# Altium integrated library IntegratedCircuit.IntLib: 91 symbols (part 2 of 2)
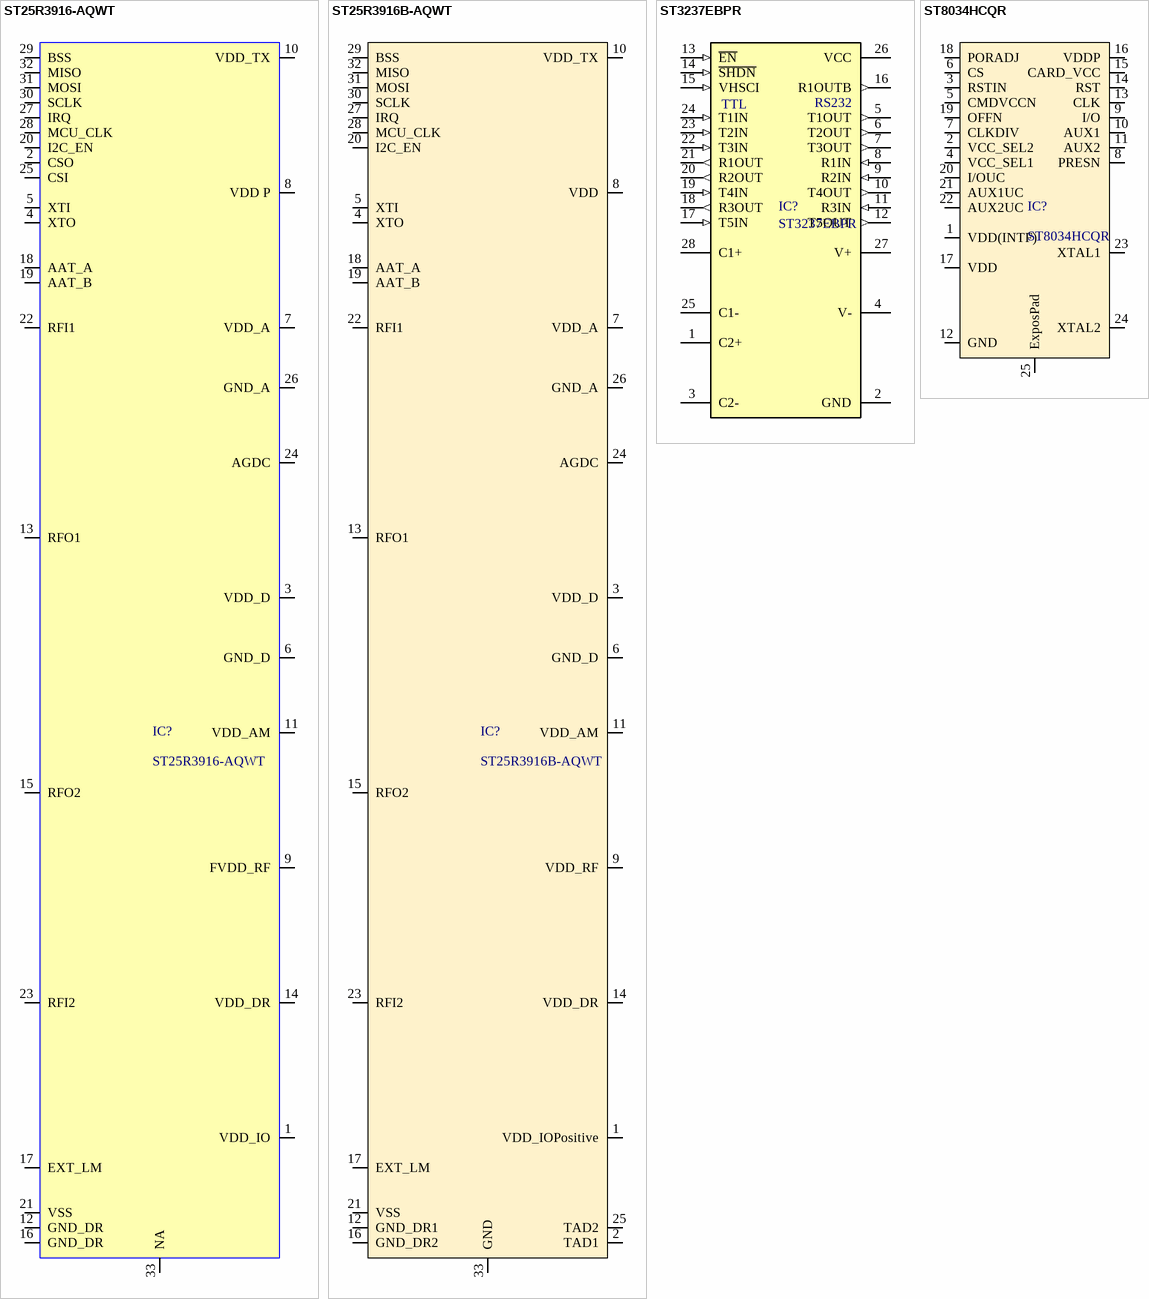
[diagram p10: symbols ST25R3916-AQWT to ST8034HCQR]

## ST25R3916-AQWT
designator IC?
High performance NFC universal device and EMVCo reader, VFQFPN 5X5X1 32L WETTABLE FLANKS, RoHS; Manufacturer: STMicroelectronics; Purpose Of Usage: BASIC; Supplier 1: Digi-Key; Manufacturer Part Number: ST25R3916-AQWT; RoHS: Yes; Category: INTEGRATED CIRCUITS; Supplier Part Number 1: 497-18366-1-ND; Sub-Category: NFC Driver; Mount: SMD; Case/Package: QFN; Lead Free: Lead Free; Stock ID: ??; Local Supplier: FUTURE; Price 10K: 2.88
footprint VFQFPN32 (PQFN, 32-Leads, Body 5.00x5.00mm, Pitch 0.50mm, Thermal Pad 3.50x3.50mm, IPC Medium Density)
pins: 1 VDD_IO "Positive supply for peripheral communication", 2 CSO "Capacitor sensor output / Test output 2", 3 VDD_D "Digital supply regulator output", 4 XTO "X’tal oscillator output", 5 XTI "X’tal oscillator input, in test mode used as digital input (clock)", 6 GND_D "Digital ground", 7 VDD_A "Analog supply regulator output", 8 VDD P "External positive supply", 9 FVDD_RF "Regulated driver supply for antenna drivers", 10 VDD_TX "External positive supply for the TX part", 11 VDD_AM "Regulated driver supply for AM modulation", 12 GND_DR "Antenna driver ground, including driver VSS", 13 RFO1 "Antenna driver output", 14 VDD_DR "Antenna driver positive supply input", 15 RFO2 "Antenna driver output", 16 GND_DR "Antenna driver ground, including driver VSS", 17 EXT_LM "External load modulation MOS gate driver", 18 AAT_A "AAT tune voltage for variable capacitor AAT_A", 19 AAT_B "AAT tune voltage for variable capacitor AAT_B", 20 I2C_EN "I2C interface enable (VDD_D level)", 21 VSS "Ground, die substrate potential", 22 RFI1 "Receiver input", 23 RFI2 "Receiver input", 24 AGDC "Analog reference voltage", 25 CSI "Capacitor sensor input / Test output 1", 26 GND_A "Analog ground", 27 IRQ "Interrupt request output", 28 MCU_CLK "Clock output for MCU", 29 BSS "SPI enable (active low)", 30 SCLK "SPI clock / I2C clock", 31 MOSI "SPI data input", 32 MISO "Serial peripheral interface data output / I2C data line", 33 NA "Thermal pad"

## ST25R3916B-AQWT
designator IC?
High Performance NFC Reader 13.553MHz to 13.567MHz 2mA 32-Pin VFQFPN T/R; Manufacturer: STMicroelectronics; Purpose Of Usage: BASIC; Supplier 1: Digi-Key; Manufacturer Part Number: ST25R3916B-AQWT; RoHS: No; Category: INTEGRATED CIRCUITS; Supplier Part Number 1: 497-ST25R3916B-AQWTTR-ND; Case/Package: QFN; Lead Free: Lead Free; Local Supplier: FUTURE; Mount: SMD; Price 10K: 2.88; Stock ID: ??; Sub-Category: NFC Driver
footprint VFQFPN32 (PQFN, 32-Leads, Body 5.00x5.00mm, Pitch 0.50mm, Thermal Pad 3.50x3.50mm, IPC Medium Density)
pins: 1 VDD_IOPositive "SPI enable (active low)", 2 TAD1 "Serial peripheral interface data output / I2C data line", 3 VDD_D "SPI data input", 4 XTO "X’tal oscillator output", 5 XTI "X’tal oscillator input, in test mode used as digital input (clock)", 6 GND_D "Clock output for MCU", 7 VDD_A "I2C interface enable (VDD_D level)", 8 VDD "Capacitor sensor output / Test output 2", 9 VDD_RF "Capacitor sensor input / Test output 1", 10 VDD_TX "X’tal oscillator input, in test mode used as digital input (clock)", 11 VDD_AM "X’tal oscillator output", 12 GND_DR1 "AAT tune voltage for variable capacitor AAT_A", 13 RFO1 "Antenna driver output", 14 VDD_DR "Receiver input", 15 RFO2 "Antenna driver output", 16 GND_DR2 "Antenna driver output", 17 EXT_LM "External load modulation MOS gate driver", 18 AAT_A "AAT tune voltage for variable capacitor AAT_A", 19 AAT_B "AAT tune voltage for variable capacitor AAT_B", 20 I2C_EN "I2C interface enable (VDD_D level)", 21 VSS "Ground, die substrate potential", 22 RFI1 "Receiver input", 23 RFI2 "Receiver input", 24 AGDC "Antenna driver positive supply input", 25 TAD2 "Regulated driver supply for antenna drivers", 26 GND_A "Regulated driver supply for AM modulation", 27 IRQ "Interrupt request output", 28 MCU_CLK "Clock output for MCU", 29 BSS "SPI enable (active low)", 30 SCLK "SPI clock / I2C clock", 31 MOSI "SPI data input", 32 MISO "Serial peripheral interface data output / I2C data line", 33 GND "External positive supply for the TX part"

## ST3237EBPR
designator IC?
Quint Transmitter Triple Receiver RS-232 28-Pin SSOP T/R; Manufacturer: STMicroelectronics; Purpose Of Usage: BASIC; Supplier 1: Digi-Key; Supplier Part Number 1: 497-7927-1-ND; Manufacturer Part Number: ST3237EBPR; Stock 1: 3927; RoHS: Yes; Mount: SMD; Case/Package: SSOP; Package Quantity: 1350; Lead Free: Lead Free; Category: INTEGRATED CIRCUITS; Sub-Category: RS232 to TTL; Stock ID: ??
footprint SSOP-28
pins: 1 C2+, 2 GND (power), 3 C2-, 4 V-, 5 T1OUT (out), 6 T2OUT (out), 7 T3OUT (out), 8 R1IN (in), 9 R2IN (in), 10 T4OUT (out), 11 R3IN (in), 12 T5OUT (out), 13 ~{EN} (in), 14 ~{SHDN} (in), 15 VHSCI (in), 16 R1OUTB (out), 17 T5IN (in), 18 R3OUT (out), 19 T4IN (in), 20 R2OUT (out), 21 R1OUT (out), 22 T3IN (in), 23 T2IN (in), 24 T1IN (in), 25 C1-, 26 VCC (power), 27 V+, 28 C1+
text: TTL; RS232

## ST8034HCQR
designator IC?
24-pin smartcard interfaces, -25°C to 85°C, HVQFN24 4x4x0-85, RoHS; Manufacturer: STMicroelectronics; Purpose Of Usage: BASIC; Supplier 1: Digi-Key; Manufacturer Part Number: ST8034HCQR; RoHS: Yes; Category: INTEGRATED CIRCUITS; Case/Package: QFN; Package Quantity: 6000; Supplier Part Number 1: ST8034HCQR-ND; Lead Free: Lead Free; Local Supplier: FUTURE; Mount: SMD; Price 10K: 0.35; Stock ID: ??; Sub-Category: SMART CARD DRIVER
footprint QFN24
pins: 1 VDD(INTF), 2 VCC_SEL2, 3 RSTIN, 4 VCC_SEL1, 5 CMDVCCN, 6 CS, 7 CLKDIV, 8 PRESN, 9 I/O, 10 AUX1, 11 AUX2, 12 GND, 13 CLK, 14 RST, 15 CARD_VCC, 16 VDDP, 17 VDD, 18 PORADJ, 19 OFFN, 20 I/OUC, 21 AUX1UC, 22 AUX2UC, 23 XTAL1, 24 XTAL2, 25 ExposPad

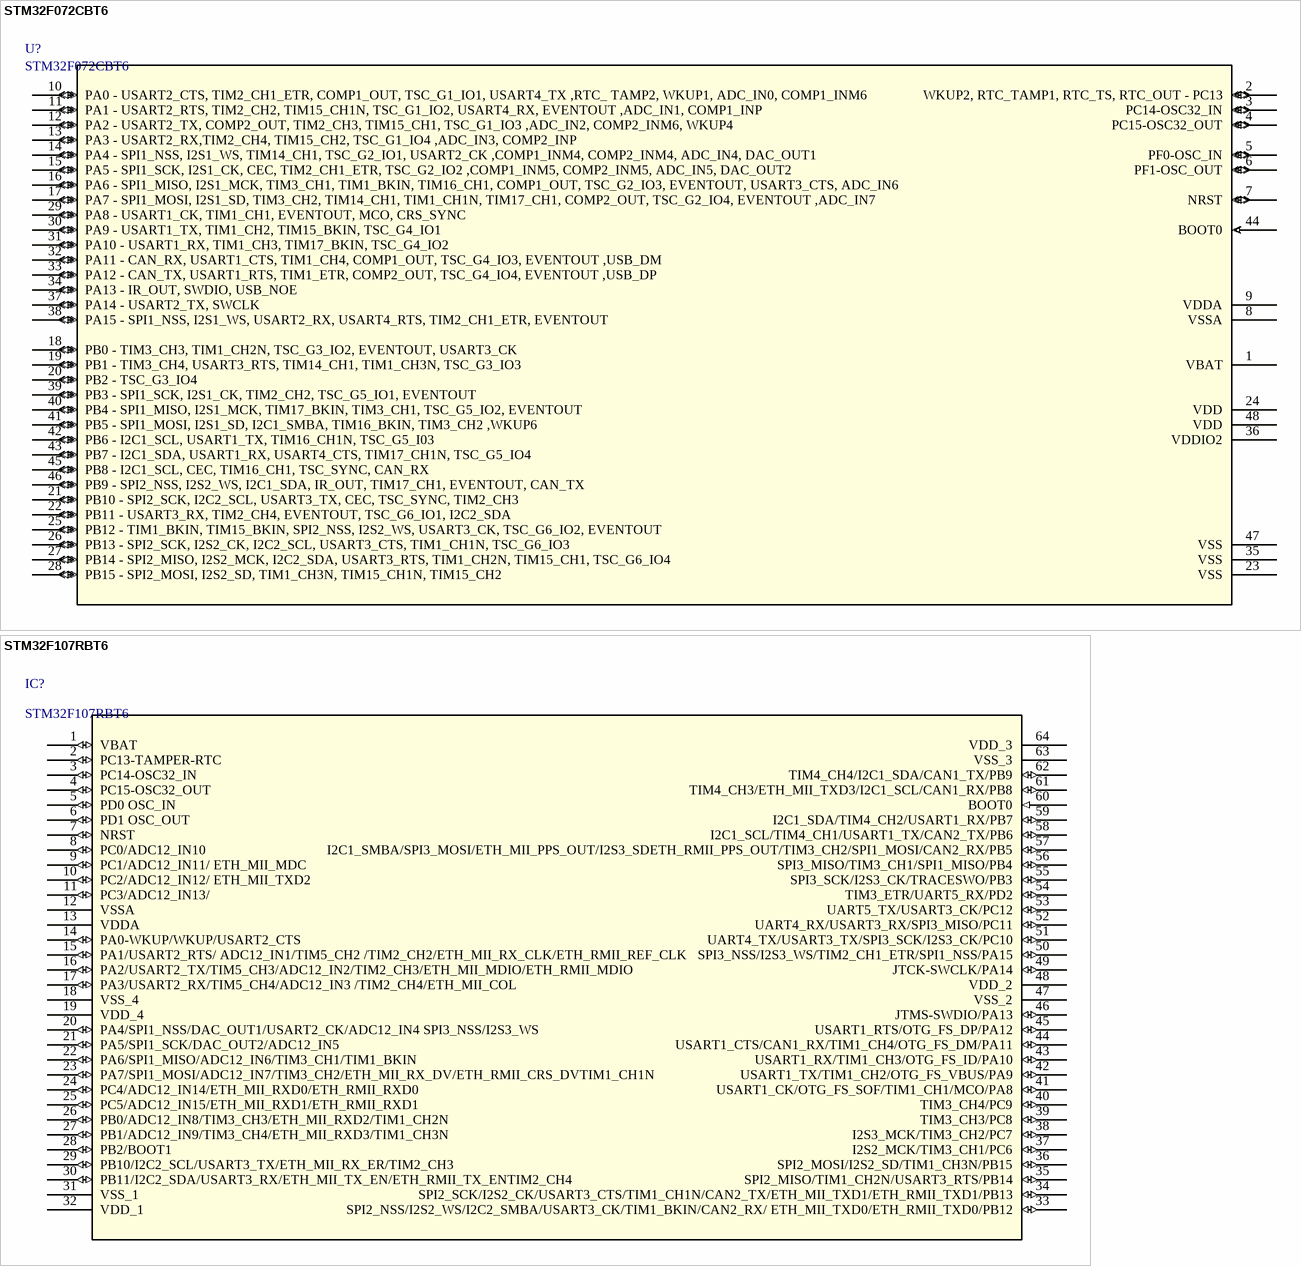
[diagram p6: symbols STM32F072CBT6 to STM32F107RBT6]

## STM32F072CBT6
designator U?
IC MCU 32BIT 128KB FLASH 48LQFP; Manufacturer: STMicroelectronics; Purpose Of Usage: BASIC; Supplier 1: Digi-Key; Manufacturer Part Number: STM32F072CBT6; Stock 1: 16666; RoHS: Yes; Mount: SMD; Case/Package: LQFP; Lead Free: Lead Free; Supplier Part Number 1: 497-14645-ND; Category: INTEGRATED CIRCUITS; Sub-Category: MCU; Stock ID: ??
footprint LQFP48-7x7mm_STM
pins: 1 VBAT (power), 2 WKUP2, RTC_TAMP1, RTC_TS, RTC_OUT - PC13 (io), 3 PC14-OSC32_IN (io), 4 PC15-OSC32_OUT (io), 5 PF0-OSC_IN (io), 6 PF1-OSC_OUT (io), 7 NRST (io), 8 VSSA (power), 9 VDDA (power), 10 PA0 - USART2_CTS, TIM2_CH1_ETR, COMP1_OUT, TSC_G1_IO1, USART4_TX ,RTC_ TAMP2, WKUP1, ADC_IN0, COMP1_INM6 (io), 11 PA1 - USART2_RTS, TIM2_CH2, TIM15_CH1N, TSC_G1_IO2, USART4_RX, EVENTOUT ,ADC_IN1, COMP1_INP (io), 12 PA2 - USART2_TX, COMP2_OUT, TIM2_CH3, TIM15_CH1, TSC_G1_IO3 ,ADC_IN2, COMP2_INM6, WKUP4 (io), 13 PA3 - USART2_RX,TIM2_CH4, TIM15_CH2, TSC_G1_IO4 ,ADC_IN3, COMP2_INP (io), 14 PA4 - SPI1_NSS, I2S1_WS, TIM14_CH1, TSC_G2_IO1, USART2_CK ,COMP1_INM4, COMP2_INM4, ADC_IN4, DAC_OUT1 (io), 15 PA5 - SPI1_SCK, I2S1_CK, CEC, TIM2_CH1_ETR, TSC_G2_IO2 ,COMP1_INM5, COMP2_INM5, ADC_IN5, DAC_OUT2 (io), 16 PA6 - SPI1_MISO, I2S1_MCK, TIM3_CH1, TIM1_BKIN, TIM16_CH1, COMP1_OUT, TSC_G2_IO3, EVENTOUT, USART3_CTS, ADC_IN6 (io), 17 PA7 - SPI1_MOSI, I2S1_SD, TIM3_CH2, TIM14_CH1, TIM1_CH1N, TIM17_CH1, COMP2_OUT, TSC_G2_IO4, EVENTOUT ,ADC_IN7 (io), 18 PB0 - TIM3_CH3, TIM1_CH2N, TSC_G3_IO2, EVENTOUT, USART3_CK (io), 19 PB1 - TIM3_CH4, USART3_RTS, TIM14_CH1, TIM1_CH3N, TSC_G3_IO3 (io), 20 PB2 - TSC_G3_IO4 (io), 21 PB10 - SPI2_SCK, I2C2_SCL, USART3_TX, CEC, TSC_SYNC, TIM2_CH3 (io), 22 PB11 - USART3_RX, TIM2_CH4, EVENTOUT, TSC_G6_IO1, I2C2_SDA (io), 23 VSS (power), 24 VDD (power), 25 PB12 - TIM1_BKIN, TIM15_BKIN, SPI2_NSS, I2S2_WS, USART3_CK, TSC_G6_IO2, EVENTOUT (io), 26 PB13 - SPI2_SCK, I2S2_CK, I2C2_SCL, USART3_CTS, TIM1_CH1N, TSC_G6_IO3 (io), 27 PB14 - SPI2_MISO, I2S2_MCK, I2C2_SDA, USART3_RTS, TIM1_CH2N, TIM15_CH1, TSC_G6_IO4 (io), 28 PB15 - SPI2_MOSI, I2S2_SD, TIM1_CH3N, TIM15_CH1N, TIM15_CH2 (io), 29 PA8 - USART1_CK, TIM1_CH1, EVENTOUT, MCO, CRS_SYNC (io), 30 PA9 - USART1_TX, TIM1_CH2, TIM15_BKIN, TSC_G4_IO1 (io), 31 PA10 - USART1_RX, TIM1_CH3, TIM17_BKIN, TSC_G4_IO2 (io), 32 PA11 - CAN_RX, USART1_CTS, TIM1_CH4, COMP1_OUT, TSC_G4_IO3, EVENTOUT ,USB_DM (io), 33 PA12 - CAN_TX, USART1_RTS, TIM1_ETR, COMP2_OUT, TSC_G4_IO4, EVENTOUT ,USB_DP (io), 34 PA13 - IR_OUT, SWDIO, USB_NOE (io), 35 VSS (power), 36 VDDIO2 (power), 37 PA14 - USART2_TX, SWCLK (io), 38 PA15 - SPI1_NSS, I2S1_WS, USART2_RX, USART4_RTS, TIM2_CH1_ETR, EVENTOUT (io), 39 PB3 - SPI1_SCK, I2S1_CK, TIM2_CH2, TSC_G5_IO1, EVENTOUT (io), 40 PB4 - SPI1_MISO, I2S1_MCK, TIM17_BKIN, TIM3_CH1, TSC_G5_IO2, EVENTOUT  (io), 41 PB5 - SPI1_MOSI, I2S1_SD, I2C1_SMBA, TIM16_BKIN, TIM3_CH2 ,WKUP6 (io), 42 PB6 - I2C1_SCL, USART1_TX, TIM16_CH1N, TSC_G5_I03 (io), 43 PB7 - I2C1_SDA, USART1_RX, USART4_CTS, TIM17_CH1N, TSC_G5_IO4 (io), 44 BOOT0 (in), 45 PB8 - I2C1_SCL, CEC, TIM16_CH1, TSC_SYNC, CAN_RX (io), 46 PB9 - SPI2_NSS, I2S2_WS, I2C1_SDA, IR_OUT, TIM17_CH1, EVENTOUT, CAN_TX (io), 47 VSS (power), 48 VDD (power)

## STM32F107RBT6
designator IC?
MCU 32-bit STM32 ARM Cortex M3 RISC 128KB Flash 2.5V/3.3V 64-Pin LQFP Tray; Manufacturer: STMicroelectronics; Purpose Of Usage: BASIC; Supplier 1: Digi-Key; Supplier Part Number 1: 497-8916-ND; Manufacturer Part Number: STM32F107RBT6; RoHS: Yes; Stock 1: 1920; Case/Package: LQFP; Package Quantity: 160; Lead Free: Lead Free; Category: INTEGRATED CIRCUITS; Sub-Category: MCU; Mount: SMD; Stock ID: ??
footprint LQFP-64
pins: 1 VBAT (io), 2 PC13-TAMPER-RTC (io), 3 PC14-OSC32_IN (io), 4 PC15-OSC32_OUT (io), 5 PD0 OSC_IN (io), 6 PD1 OSC_OUT (io), 7 NRST (io), 8 PC0/ADC12_IN10 (io), 9 PC1/ADC12_IN11/ ETH_MII_MDC (io), 10 PC2/ADC12_IN12/ ETH_MII_TXD2 (io), 11 PC3/ADC12_IN13/ (io), 12 VSSA (power), 13 VDDA (power), 14 PA0-WKUP/WKUP/USART2_CTS (io), 15 PA1/USART2_RTS/ ADC12_IN1/TIM5_CH2 /TIM2_CH2/ETH_MII_RX_CLK/ETH_RMII_REF_CLK (io), 16 PA2/USART2_TX/TIM5_CH3/ADC12_IN2/TIM2_CH3/ETH_MII_MDIO/ETH_RMII_MDIO (io), 17 PA3/USART2_RX/TIM5_CH4/ADC12_IN3 /TIM2_CH4/ETH_MII_COL (io), 18 VSS_4 (power), 19 VDD_4 (power), 20 PA4/SPI1_NSS/DAC_OUT1/USART2_CK/ADC12_IN4 SPI3_NSS/I2S3_WS (io), 21 PA5/SPI1_SCK/DAC_OUT2/ADC12_IN5 (io), 22 PA6/SPI1_MISO/ADC12_IN6/TIM3_CH1/TIM1_BKIN (io), 23 PA7/SPI1_MOSI/ADC12_IN7/TIM3_CH2/ETH_MII_RX_DV/ETH_RMII_CRS_DVTIM1_CH1N (io), 24 PC4/ADC12_IN14/ETH_MII_RXD0/ETH_RMII_RXD0 (io), 25 PC5/ADC12_IN15/ETH_MII_RXD1/ETH_RMII_RXD1 (io), 26 PB0/ADC12_IN8/TIM3_CH3/ETH_MII_RXD2/TIM1_CH2N (io), 27 PB1/ADC12_IN9/TIM3_CH4/ETH_MII_RXD3/TIM1_CH3N (io), 28 PB2/BOOT1 (io), 29 PB10/I2C2_SCL/USART3_TX/ETH_MII_RX_ER/TIM2_CH3 (io), 30 PB11/I2C2_SDA/USART3_RX/ETH_MII_TX_EN/ETH_RMII_TX_ENTIM2_CH4 (io), 31 VSS_1 (power), 32 VDD_1 (power), 33 SPI2_NSS/I2S2_WS/I2C2_SMBA/USART3_CK/TIM1_BKIN/CAN2_RX/ ETH_MII_TXD0/ETH_RMII_TXD0/PB12 (io), 34 SPI2_SCK/I2S2_CK/USART3_CTS/TIM1_CH1N/CAN2_TX/ETH_MII_TXD1/ETH_RMII_TXD1/PB13 (io), 35 SPI2_MISO/TIM1_CH2N/USART3_RTS/PB14 (io), 36 SPI2_MOSI/I2S2_SD/TIM1_CH3N/PB15 (io), 37 I2S2_MCK/TIM3_CH1/PC6 (io), 38 I2S3_MCK/TIM3_CH2/PC7 (io), 39 TIM3_CH3/PC8 (io), 40 TIM3_CH4/PC9 (io), 41 USART1_CK/OTG_FS_SOF/TIM1_CH1/MCO/PA8 (io), 42 USART1_TX/TIM1_CH2/OTG_FS_VBUS/PA9 (io), 43 USART1_RX/TIM1_CH3/OTG_FS_ID/PA10 (io), 44 USART1_CTS/CAN1_RX/TIM1_CH4/OTG_FS_DM/PA11 (io), 45 USART1_RTS/OTG_FS_DP/PA12 (io), 46 JTMS-SWDIO/PA13 (io), 47 VSS_2 (power), 48 VDD_2 (power), 49 JTCK-SWCLK/PA14 (io), 50 SPI3_NSS/I2S3_WS/TIM2_CH1_ETR/SPI1_NSS/PA15 (io), 51 UART4_TX/USART3_TX/SPI3_SCK/I2S3_CK/PC10 (io), 52 UART4_RX/USART3_RX/SPI3_MISO/PC11 (io), 53 UART5_TX/USART3_CK/PC12 (io), 54 TIM3_ETR/UART5_RX/PD2 (io), 55 SPI3_SCK/I2S3_CK/TRACESWO/PB3 (io), 56 SPI3_MISO/TIM3_CH1/SPI1_MISO/PB4 (io), 57 I2C1_SMBA/SPI3_MOSI/ETH_MII_PPS_OUT/I2S3_SDETH_RMII_PPS_OUT/TIM3_CH2/SPI1_MOSI/CAN2_RX/PB5 (io), 58 I2C1_SCL/TIM4_CH1/USART1_TX/CAN2_TX/PB6 (io), 59 I2C1_SDA/TIM4_CH2/USART1_RX/PB7 (io), 60 BOOT0 (in), 61 TIM4_CH3/ETH_MII_TXD3/I2C1_SCL/CAN1_RX/PB8 (io), 62 TIM4_CH4/I2C1_SDA/CAN1_TX/PB9 (io), 63 VSS_3 (power), 64 VDD_3 (power)

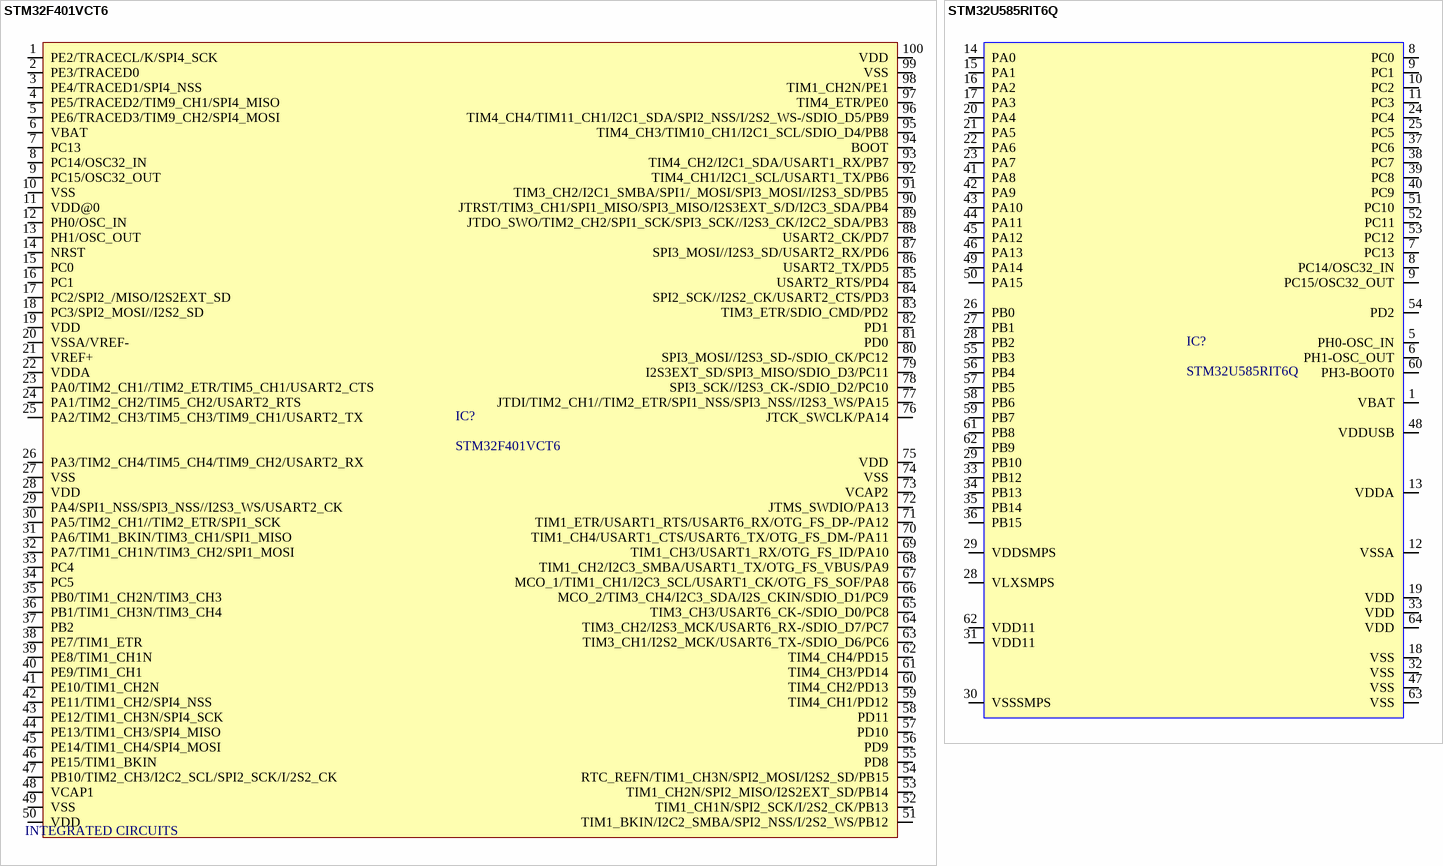
[diagram p7: symbols STM32F401VCT6 to STM32U585RIT6Q]

## STM32F401VCT6
designator IC?  Category: INTEGRATED CIRCUITS
STMICROELECTRONICS   STM32F401VCT6   32 Bit Microcontroller, Dynamic Efficiency Line, ARM Cortex-M4, 84 MHz, 256 KB, 64 KB, 100 Pins; Purpose Of Usage: BASIC; Supplier 1: Digi-Key; Supplier Part Number 1: 497-14048-ND; Manufacturer: STMicroelectronics; Manufacturer Part Number: STM32F401VCT6; Stock 1: 5454; RoHS: Yes; Case/Package: LQFP; Package Quantity: 540; Lead Free: Lead Free; Sub-Category: MCU; Mount: SMD; Stock ID: ??
footprint LQFP100_14X14
pins: 1 PE2/TRACECL/K/SPI4_SCK, 2 PE3/TRACED0, 3 PE4/TRACED1/SPI4_NSS, 4 PE5/TRACED2/TIM9_CH1/SPI4_MISO, 5 PE6/TRACED3/TIM9_CH2/SPI4_MOSI, 6 VBAT, 7 PC13, 8 PC14/OSC32_IN, 9 PC15/OSC32_OUT, 10 VSS, 11 VDD@0, 12 PH0/OSC_IN, 13 PH1/OSC_OUT, 14 NRST, 15 PC0, 16 PC1, 17 PC2/SPI2_/MISO/I2S2EXT_SD, 18 PC3/SPI2_MOSI//I2S2_SD, 19 VDD, 20 VSSA/VREF-, 21 VREF+, 22 VDDA, 23 PA0/TIM2_CH1//TIM2_ETR/TIM5_CH1/USART2_CTS, 24 PA1/TIM2_CH2/TIM5_CH2/USART2_RTS, 25 PA2/TIM2_CH3/TIM5_CH3/TIM9_CH1/USART2_TX, 26 PA3/TIM2_CH4/TIM5_CH4/TIM9_CH2/USART2_RX, 27 VSS, 28 VDD, 29 PA4/SPI1_NSS/SPI3_NSS//I2S3_WS/USART2_CK, 30 PA5/TIM2_CH1//TIM2_ETR/SPI1_SCK, 31 PA6/TIM1_BKIN/TIM3_CH1/SPI1_MISO, 32 PA7/TIM1_CH1N/TIM3_CH2/SPI1_MOSI, 33 PC4, 34 PC5, 35 PB0/TIM1_CH2N/TIM3_CH3, 36 PB1/TIM1_CH3N/TIM3_CH4, 37 PB2, 38 PE7/TIM1_ETR, 39 PE8/TIM1_CH1N, 40 PE9/TIM1_CH1, 41 PE10/TIM1_CH2N, 42 PE11/TIM1_CH2/SPI4_NSS, 43 PE12/TIM1_CH3N/SPI4_SCK, 44 PE13/TIM1_CH3/SPI4_MISO, 45 PE14/TIM1_CH4/SPI4_MOSI, 46 PE15/TIM1_BKIN, 47 PB10/TIM2_CH3/I2C2_SCL/SPI2_SCK/I/2S2_CK, 48 VCAP1, 49 VSS, 50 VDD, 51 TIM1_BKIN/I2C2_SMBA/SPI2_NSS/I/2S2_WS/PB12, 52 TIM1_CH1N/SPI2_SCK/I/2S2_CK/PB13, 53 TIM1_CH2N/SPI2_MISO/I2S2EXT_SD/PB14, 54 RTC_REFN/TIM1_CH3N/SPI2_MOSI/I2S2_SD/PB15, 55 PD8, 56 PD9, 57 PD10, 58 PD11, 59 TIM4_CH1/PD12, 60 TIM4_CH2/PD13, 61 TIM4_CH3/PD14, 62 TIM4_CH4/PD15, 63 TIM3_CH1/I2S2_MCK/USART6_TX-/SDIO_D6/PC6, 64 TIM3_CH2/I2S3_MCK/USART6_RX-/SDIO_D7/PC7, 65 TIM3_CH3/USART6_CK-/SDIO_D0/PC8, 66 MCO_2/TIM3_CH4/I2C3_SDA/I2S_CKIN/SDIO_D1/PC9, 67 MCO_1/TIM1_CH1/I2C3_SCL/USART1_CK/OTG_FS_SOF/PA8, 68 TIM1_CH2/I2C3_SMBA/USART1_TX/OTG_FS_VBUS/PA9, 69 TIM1_CH3/USART1_RX/OTG_FS_ID/PA10, 70 TIM1_CH4/USART1_CTS/USART6_TX/OTG_FS_DM-/PA11, 71 TIM1_ETR/USART1_RTS/USART6_RX/OTG_FS_DP-/PA12, 72 JTMS_SWDIO/PA13, 73 VCAP2, 74 VSS, 75 VDD, 76 JTCK_SWCLK/PA14, 77 JTDI/TIM2_CH1//TIM2_ETR/SPI1_NSS/SPI3_NSS//I2S3_WS/PA15, 78 SPI3_SCK//I2S3_CK-/SDIO_D2/PC10, 79 I2S3EXT_SD/SPI3_MISO/SDIO_D3/PC11, 80 SPI3_MOSI//I2S3_SD-/SDIO_CK/PC12, 81 PD0, 82 PD1, 83 TIM3_ETR/SDIO_CMD/PD2, 84 SPI2_SCK//I2S2_CK/USART2_CTS/PD3, 85 USART2_RTS/PD4, 86 USART2_TX/PD5, 87 SPI3_MOSI//I2S3_SD/USART2_RX/PD6, 88 USART2_CK/PD7, 89 JTDO_SWO/TIM2_CH2/SPI1_SCK/SPI3_SCK//I2S3_CK/I2C2_SDA/PB3, 90 JTRST/TIM3_CH1/SPI1_MISO/SPI3_MISO/I2S3EXT_S/D/I2C3_SDA/PB4, 91 TIM3_CH2/I2C1_SMBA/SPI1/_MOSI/SPI3_MOSI//I2S3_SD/PB5, 92 TIM4_CH1/I2C1_SCL/USART1_TX/PB6, 93 TIM4_CH2/I2C1_SDA/USART1_RX/PB7, 94 BOOT, 95 TIM4_CH3/TIM10_CH1/I2C1_SCL/SDIO_D4/PB8, 96 TIM4_CH4/TIM11_CH1/I2C1_SDA/SPI2_NSS/I/2S2_WS-/SDIO_D5/PB9, 97 TIM4_ETR/PE0, 98 TIM1_CH2N/PE1, 99 VSS, 100 VDD

## STM32U585RIT6Q
designator IC?
MCU 32-Bit STM32U585 ARM Cortex-M33F RISC 2MB Flash 1.71V to 3.6V 64-Pin LQFP Tray; Manufacturer: STMicroelectronics; Purpose Of Usage: BASIC; Supplier 1: Mouser; Manufacturer Part Number: STM32U585RIT6Q; RoHS: No; Category: INTEGRATED CIRCUITS; Sub-Category: MCU; Mount: SMD; Case/Package: LQFP; Lead Free: Lead Free; Stock ID: ??
footprint LQFP64-10x10mm_STM
pins: 1 VBAT (power), 5 PH0-OSC_IN, 6 PH1-OSC_OUT, 7 PC13, 8 PC0, 8 PC14/OSC32_IN, 9 PC1, 9 PC15/OSC32_OUT, 10 PC2, 11 PC3, 12 VSSA (power), 13 VDDA (power), 14 PA0, 15 PA1, 16 PA2, 17 PA3, 18 VSS (power), 19 VDD (power), 20 PA4, 21 PA5, 22 PA6, 23 PA7, 24 PC4, 25 PC5, 26 PB0, 27 PB1, 28 PB2, 28 VLXSMPS (power), 29 PB10, 29 VDDSMPS (power), 30 VSSSMPS (power), 31 VDD11 (power), 32 VSS (power), 33 PB12, 33 VDD (power), 34 PB13, 35 PB14, 36 PB15, 37 PC6, 38 PC7, 39 PC8, 40 PC9, 41 PA8, 42 PA9, 43 PA10, 44 PA11, 45 PA12, 46 PA13, 47 VSS (power), 48 VDDUSB (power), 49 PA14, 50 PA15, 51 PC10, 52 PC11, 53 PC12, 54 PD2, 55 PB3, 56 PB4, 57 PB5, 58 PB6, 59 PB7, 60 PH3-BOOT0, 61 PB8, 62 PB9, 62 VDD11 (power), 63 VSS (power), 64 VDD (power)

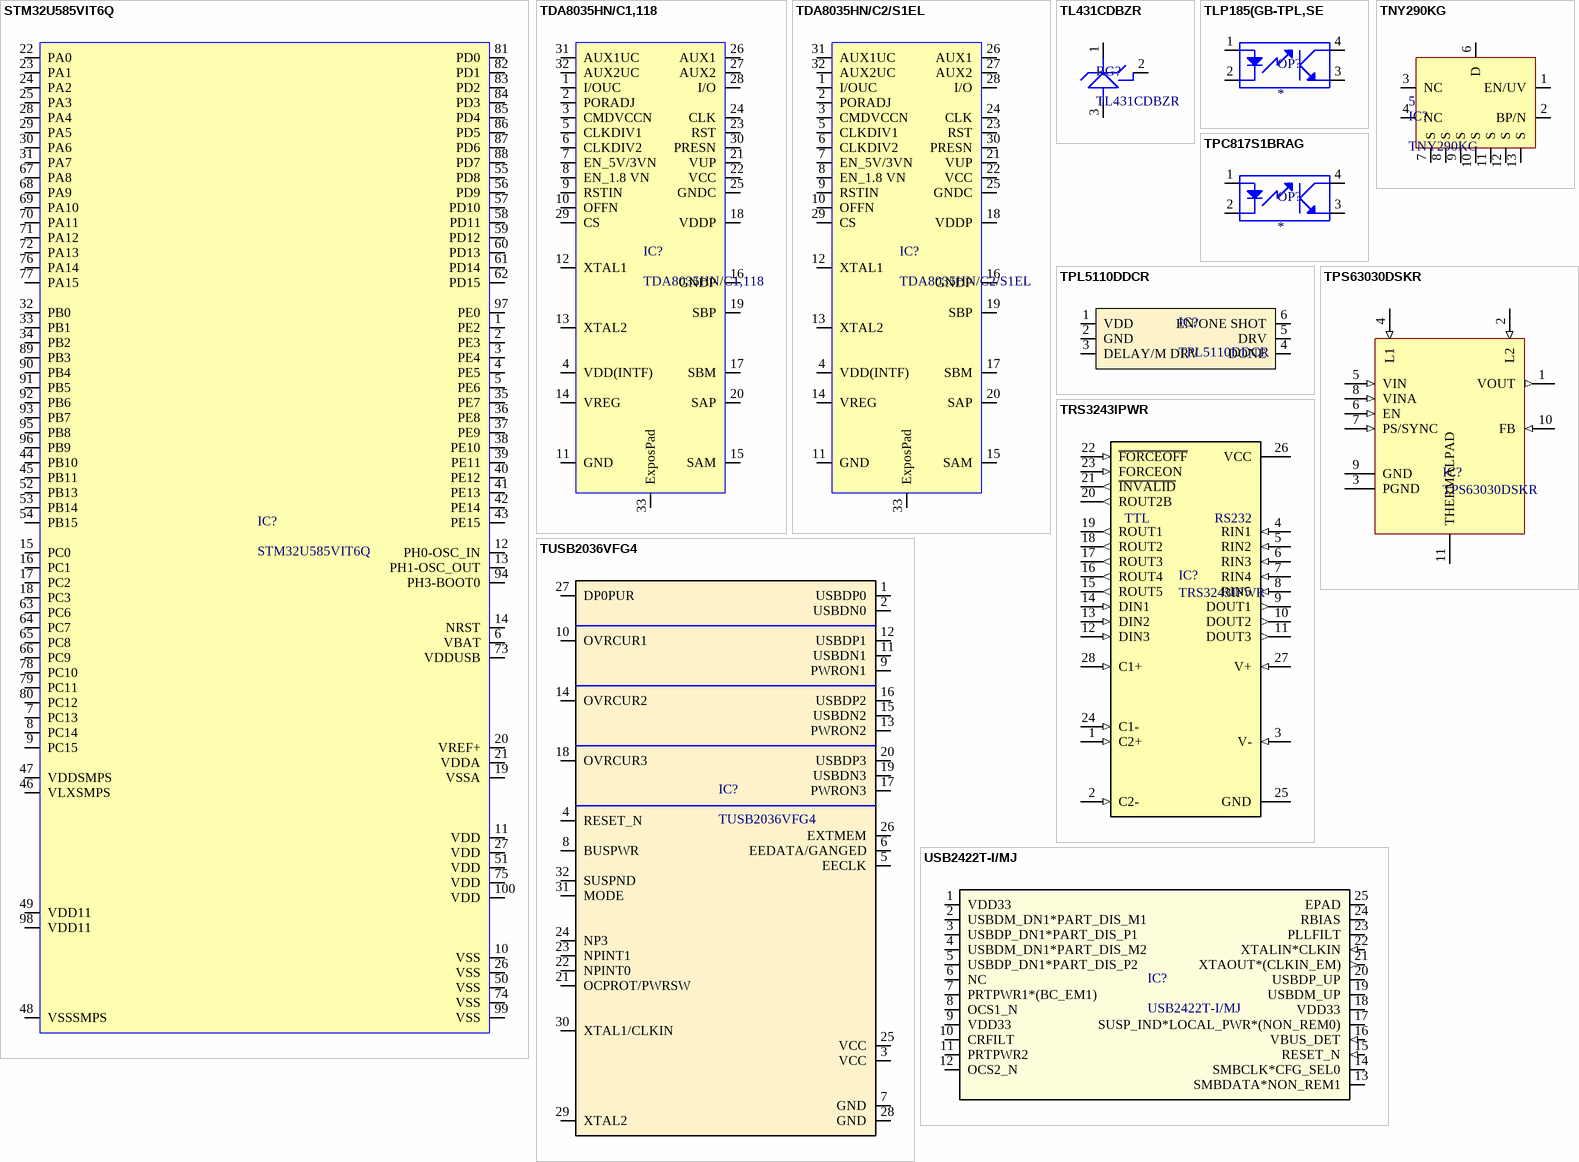
[diagram p8: symbols STM32U585VIT6Q to USB2422T-I/MJ]

## STM32U585VIT6Q
designator IC?
MCU 32-Bit STM32U585 ARM Cortex-M33F RISC 2MB Flash 1.71V to 3.6V 100-Pin LQFP Tray; Manufacturer: STMicroelectronics; Purpose Of Usage: BASIC; Supplier 1: Mouser; Manufacturer Part Number: STM32U585VIT6Q; RoHS: No; Category: INTEGRATED CIRCUITS; Supplier Part Number 1: 511-STM32U585VIT6Q; Sub-Category: MCU; Mount: SMD; Case/Package: LQFP; Lead Free: Lead Free; Stock ID: ??; Local Supplier: FUTURE; Price 10K: 6.15
footprint TSQFP50P1600X1600X160-100N (TSQFP, 100-Leads, Body 14.00x14.00mm, Pitch 0.50mm, IPC Medium Density)
pins: 1 PE2, 2 PE3, 3 PE4, 4 PE5, 5 PE6, 6 VBAT, 7 PC13, 8 PC14, 9 PC15, 10 VSS, 11 VDD, 12 PH0-OSC_IN, 13 PH1-OSC_OUT, 14 NRST, 15 PC0, 16 PC1, 17 PC2, 18 PC3, 19 VSSA, 20 VREF+, 21 VDDA, 22 PA0, 23 PA1, 24 PA2, 25 PA3, 26 VSS, 27 VDD, 28 PA4, 29 PA5, 30 PA6, 31 PA7, 32 PB0, 33 PB1, 34 PB2, 35 PE7, 36 PE8, 37 PE9, 38 PE10, 39 PE11, 40 PE12, 41 PE13, 42 PE14, 43 PE15, 44 PB10, 45 PB11, 46 VLXSMPS, 47 VDDSMPS, 48 VSSSMPS, 49 VDD11, 50 VSS, 51 VDD, 52 PB13, 53 PB14, 54 PB15, 55 PD8, 56 PD9, 57 PD10, 58 PD11, 59 PD12, 60 PD13, 61 PD14, 62 PD15, 63 PC6, 64 PC7, 65 PC8, 66 PC9, 67 PA8, 68 PA9, 69 PA10, 70 PA11, 71 PA12, 72 PA13, 73 VDDUSB, 74 VSS, 75 VDD, 76 PA14, 77 PA15, 78 PC10, 79 PC11, 80 PC12, 81 PD0, 82 PD1, 83 PD2, 84 PD3, 85 PD4, 86 PD5, 87 PD6, 88 PD7, 89 PB3, 90 PB4, 91 PB5, 92 PB6, 93 PB7, 94 PH3-BOOT0, 95 PB8, 96 PB9, 97 PE0, 98 VDD11, 99 VSS, 100 VDD

## TDA8035HN/C1,118
designator IC?
TDA8035 Series 5.5 V High Integrated and Low Power Smart Card Interface-HVQFN-32; Manufacturer: NXP Semiconductors; Purpose Of Usage: BASIC; Supplier 1: Digi-Key; Manufacturer Part Number: TDA8035HN/C1,118; RoHS: Yes; Category: INTEGRATED CIRCUITS; Stock 1: 5951; Mount: SMD; Package Quantity: 6000; Supplier Part Number 1: 568-13258-1-ND; Sub-Category: SMART CARD DRIVER; Case/Package: QFN; Lead Free: Lead Free; Stock ID: ??
footprint SOT617-7 (PQFN, 32-Leads, Body 5.00x5.00mm, Pitch 0.50mm, Thermal Pad 2.10x2.10mm, IPC Medium Density)
pins: 1 I/OUC, 2 PORADJ, 3 CMDVCCN, 4 VDD(INTF), 5 CLKDIV1, 6 CLKDIV2, 7 EN_5V/3VN, 8 EN_1.8 VN, 9 RSTIN, 10 OFFN, 11 GND, 12 XTAL1, 13 XTAL2, 14 VREG, 15 SAM, 16 GNDP, 17 SBM, 18 VDDP, 19 SBP, 20 SAP, 21 VUP, 22 VCC, 23 RST, 24 CLK, 25 GNDC, 26 AUX1, 27 AUX2, 28 I/O, 29 CS, 30 PRESN, 31 AUX1UC, 32 AUX2UC, 33 ExposPad

## TDA8035HN/C2/S1EL
designator IC?
Interface - Specialized High integrated and low power smart card interface; Manufacturer: NXP Semiconductors; Purpose Of Usage: BASIC; Supplier 1: Digi-Key; Manufacturer Part Number: TDA8035HN/C2/S1EL; RoHS: Yes; Category: INTEGRATED CIRCUITS; Stock 1: 878; Supplier Part Number 1: 568-14997-ND; Sub-Category: SMART CARD DRIVER; Mount: SMD; Case/Package: QFN; Lead Free: Lead Free; Stock ID: ??; Local Supplier: AVNET; Price 10K: 0.35
footprint SOT617-7 (PQFN, 32-Leads, Body 5.00x5.00mm, Pitch 0.50mm, Thermal Pad 2.10x2.10mm, IPC Medium Density)
pins: 1 I/OUC, 2 PORADJ, 3 CMDVCCN, 4 VDD(INTF), 5 CLKDIV1, 6 CLKDIV2, 7 EN_5V/3VN, 8 EN_1.8 VN, 9 RSTIN, 10 OFFN, 11 GND, 12 XTAL1, 13 XTAL2, 14 VREG, 15 SAM, 16 GNDP, 17 SBM, 18 VDDP, 19 SBP, 20 SAP, 21 VUP, 22 VCC, 23 RST, 24 CLK, 25 GNDC, 26 AUX1, 27 AUX2, 28 I/O, 29 CS, 30 PRESN, 31 AUX1UC, 32 AUX2UC, 33 ExposPad

## TL431CDBZR
designator RG?
IC VREF SHUNT ADJ SOT23-3; Manufacturer: Texas Instruments; Purpose Of Usage: BASIC; Supplier 1: Digi-Key; Supplier Part Number 1: 296-17331-1-ND; Manufacturer Part Number: TL431CDBZR; RoHS: Yes; Stock 1: 90156; Case/Package: SOT-23; Package Quantity: 1; Lead Free: Lead Free; Category: INTEGRATED CIRCUITS; Mount: SMD; Sub-Category: PMIC - VOLTAGE REFERANCE; Stock ID: ??
footprint SOT-23
pins: 1, 2, 3

## TLP185(GB-TPL,SE
designator OP?
Optocoupler DC-IN 1-CH Transistor DC-OUT 4-Pin SO; Manufacturer: Toshiba; Manufacturer Part Number: TLP185(GB-TPL,SE; Purpose Of Usage: BASIC; Supplier 1: Digi-Key; Supplier Part Number 1: TLP185(GB-TPLSECT-ND; RoHS: Yes; Stock 1: 6800; Mount: SMD; Case/Package: SMD/SMT; Package Quantity: 3000; Category: INTEGRATED CIRCUITS; Sub-Category: ISOLATOR; Lead Free: Lead Free; Stock ID: ??
footprint SOP4
pins: 1, 2, 3, 4

## TNY290KG
designator IC?  Supplier Part Number 1: 596-1538-ND
TNY290 Series 725 V 140 kHz Energy-Efficient Off-Line Switcher - ESOP-12; Manufacturer: Power Integrations; Purpose Of Usage: BASIC; Supplier 1: Digi-Key; Manufacturer Part Number: TNY290KG; RoHS: Yes; Stock 1: 3542; Mount: SMD; Case/Package: SOP; Package Quantity: 48; Category: INTEGRATED CIRCUITS; Sub-Category: PMIC - AC/DC Switching Regulator; Lead Free: Lead Free; Stock ID: ??
footprint TNY290KG
pins: 1 EN/UV, 2 BP/N, 3 NC, 4 NC, 6 D, 7 S, 8 S, 9 S, 10 S, 11 S, 12 S, 13 S

## TPC817S1BRAG
designator OP?
OPTOISO 5KV TRANS 4SOP; Manufacturer: Taiwan Semiconductor; Manufacturer Part Number: TPC817S1BRAG; Purpose Of Usage: BASIC; Supplier 1: Digi-Key; Supplier Part Number 1: TPC817S1BRAGCT-ND; RoHS: No; Stock 1: 7592; Category: INTEGRATED CIRCUITS; Mount: SMD; Sub-Category: ISOLATOR; Case/Package: DIL; Lead Free: Lead Free; Stock ID: ??
footprint DIL4_SMD
pins: 1, 2, 3, 4

## TPL5110DDCR
designator IC?
IC TIMER MOS DRIVER/PWR ON 6-SOT; Manufacturer: Texas Instruments; Purpose Of Usage: BASIC; Manufacturer Part Number: TPL5110DDCR; RoHS: Yes; Category: INTEGRATED CIRCUITS; LCSC Part Number: C125830; Lead Free: Lead Free; Mount: SMD; Stock ID: ??; Sub-Category: SYSTEM TIMER; Supplier 1: Digi-Key; Supplier Part Number 1: 296-47225-1-ND
footprint SOT23-6 (SOT23, 6-Leads, Body 2.73x2.80mm, Pitch 0.95mm, IPC Medium Density)
pins: 1 VDD, 2 GND, 3 DELAY/M DRV, 4 DONE, 5 DRV, 6 EN/ONE SHOT

## TPS63030DSKR
designator IC?
IC REG BUCK BOOST ADJ 0.9A 10SON; Manufacturer: Texas Instruments; Purpose Of Usage: BASIC; Topology: BUCK-BOOST; Supplier 1: Digi-Key; Manufacturer Part Number: TPS63030DSKR; Stock 1: 9885; RoHS: Yes; Mount: SMD; Package Quantity: 3000; Lead Free: Lead Free; Category: INTEGRATED CIRCUITS; Supplier Part Number 1: 296-39460-1-ND; Sub-Category: PMIC - DC/DC Switching Regulator; Case/Package: WSON-10; Stock ID: ??
footprint WSON-10
pins: 1 VOUT (out), 2 L2 (in), 3 PGND, 4 L1 (in), 5 VIN (in), 6 EN (in), 7 PS/SYNC (in), 8 VINA (in), 9 GND, 10 FB (in), 11 THERMALPAD

## TRS3243IPWR
designator IC?
3-V to 5.5-V Multichannel RS-232 Line Driver/Receiver With +/-15-kV (HBM) ESD Protection 28-TSSOP -40 to 85; Manufacturer: Texas Instruments; Purpose Of Usage: BASIC; Supplier 1: Mouser; Supplier Part Number 1: 595-TRS3243IPWR; Manufacturer Part Number: TRS3243IPWR; Stock 1: 2373; Mount: SMD; Case/Package: TSSOP; Package Quantity: 1; Lead Free: Lead Free; Category: INTEGRATED CIRCUITS; Sub-Category: RS232 to TTL; RoHS: Yes; Stock ID: ??
footprint TSSOP-28
pins: 1 C2+ (in), 2 C2- (in), 3 V- (in), 4 RIN1 (in), 5 RIN2 (in), 6 RIN3 (in), 7 RIN4 (in), 8 RIN5 (in), 9 DOUT1 (out), 10 DOUT2 (out), 11 DOUT3 (out), 12 DIN3 (in), 13 DIN2 (in), 14 DIN1 (in), 15 ROUT5 (out), 16 ROUT4 (out), 17 ROUT3 (out), 18 ROUT2 (out), 19 ROUT1 (out), 20 ROUT2B (out), 21 ~{INVALID} (out), 22 ~{FORCEOFF} (in), 23 FORCEON (in), 24 C1- (in), 25 GND (power), 26 VCC (power), 27 V+ (in), 28 C1+ (in)
text: TTL; RS232

## TUSB2036VFG4
designator IC?
2/3-port 12-Mbps USB full-speed hub with optional serial EEPROM interface 32-LQFP 0 to 70; Manufacturer: Texas Instruments; Purpose Of Usage: BASIC; Supplier 1: Digi-Key; Manufacturer Part Number: TUSB2036VFG4; Stock 1: 0; Case/Package: LQFP; Package Quantity: 250; Lead Free: Lead Free; Supplier Part Number 1: 296-17784-ND; Category: INTEGRATED CIRCUITS; Sub-Category: USB HUB; Mount: SMD; RoHS: Yes; Stock ID: ??
footprint HLQFP32
pins: 1 USBDP0, 2 USBDN0, 3 VCC, 4 RESET_N, 5 EECLK, 6 EEDATA/GANGED, 7 GND, 8 BUSPWR, 9 PWRON1, 10 OVRCUR1, 11 USBDN1, 12 USBDP1, 13 PWRON2, 14 OVRCUR2, 15 USBDN2, 16 USBDP2, 17 PWRON3, 18 OVRCUR3, 19 USBDN3, 20 USBDP3, 21 OCPROT/PWRSW, 22 NPINT0, 23 NPINT1, 24 NP3, 25 VCC, 26 EXTMEM, 27 DP0PUR, 28 GND, 29 XTAL2, 30 XTAL1/CLKIN, 31 MODE, 32 SUSPND

## USB2422T-I/MJ
designator IC?
IC HUB CTLR USB 2.0 24QFN; Manufacturer: Microchip; Purpose Of Usage: BASIC; Manufacturer Part Number: USB2422T-I/MJ; Stock 1: 3302; RoHS: Yes; Case/Package: QFN; Package Quantity: 5000; Lead Free: Lead Free; Category: INTEGRATED CIRCUITS; Supplier 1: Digi-Key; Supplier Part Number 1: USB2422T-I/MJCT-ND; Sub-Category: USB HUB; Mount: SMD; Stock ID: ??
footprint SQFN24_4X4MC
pins: 1 VDD33 (power), 2 USBDM_DN1*PART_DIS_M1 (io), 3 USBDP_DN1*PART_DIS_P1 (io), 4 USBDM_DN1*PART_DIS_M2 (io), 5 USBDP_DN1*PART_DIS_P2 (io), 6 NC, 7 PRTPWR1*(BC_EM1) (power), 8 OCS1_N (io), 9 VDD33 (power), 10 CRFILT, 11 PRTPWR2 (power), 12 OCS2_N (io), 13 SMBDATA*NON_REM1 (io), 14 SMBCLK*CFG_SEL0 (io), 15 RESET_N (in), 16 VBUS_DET (in), 17 SUSP_IND*LOCAL_PWR*(NON_REM0) (io), 18 VDD33 (power), 19 USBDM_UP (io), 20 USBDP_UP (io), 21 XTAOUT*(CLKIN_EM) (out), 22 XTALIN*CLKIN (in), 23 PLLFILT, 24 RBIAS, 25 EPAD

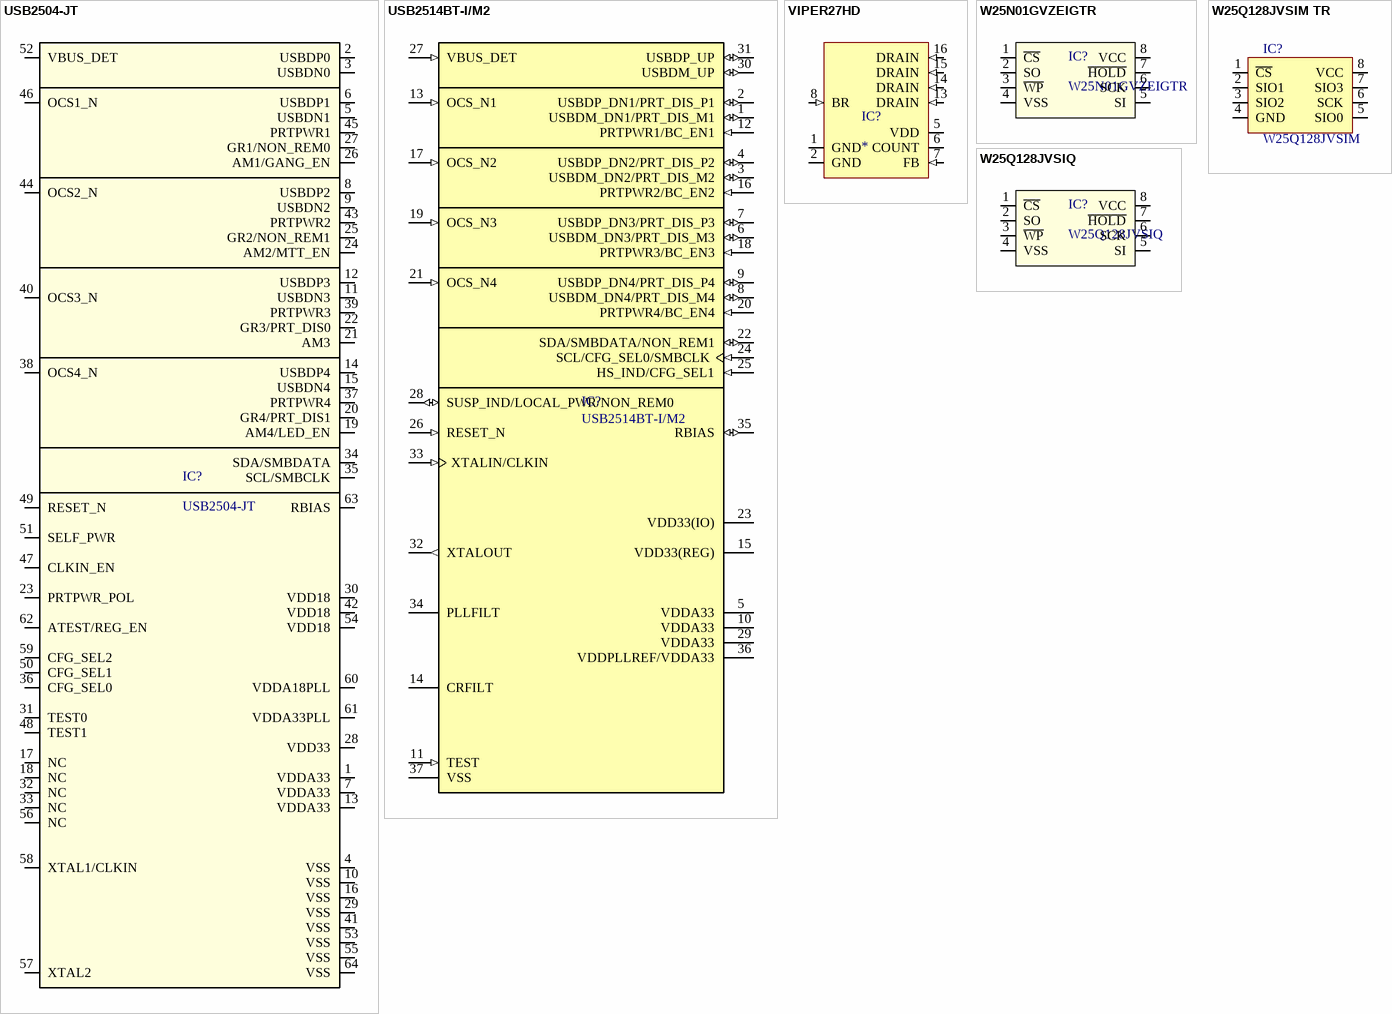
[diagram p9: symbols USB2504-JT to W25Q128JVSIQ]

## USB2504-JT
designator IC?
Low Speed/Full Speed/High Speed Compatible 4 Port Hub USB 2.0 1.8V/3.3V 64-Pin TQFP; Manufacturer: Microchip; Purpose Of Usage: BASIC; Supplier 1: Digi-Key; Manufacturer Part Number: USB2504-JT; Stock 1: 112; RoHS: Yes; Mount: SMD; Case/Package: TQFP; Package Quantity: 160; Lead Free: Lead Free; Supplier Part Number 1: USB2504-JT-ND; Category: INTEGRATED CIRCUITS; Sub-Category: USB HUB; Stock ID: ??
footprint TQFP64
pins: 1 VDDA33, 2 USBDP0, 3 USBDN0, 4 VSS, 5 USBDN1, 6 USBDP1, 7 VDDA33, 8 USBDP2, 9 USBDN2, 10 VSS, 11 USBDN3, 12 USBDP3, 13 VDDA33, 14 USBDP4, 15 USBDN4, 16 VSS, 17 NC, 18 NC, 19 AM4/LED_EN, 20 GR4/PRT_DIS1, 21 AM3, 22 GR3/PRT_DIS0, 23 PRTPWR_POL, 24 AM2/MTT_EN, 25 GR2/NON_REM1, 26 AM1/GANG_EN, 27 GR1/NON_REM0, 28 VDD33, 29 VSS, 30 VDD18, 31 TEST0, 32 NC, 33 NC, 34 SDA/SMBDATA, 35 SCL/SMBCLK, 36 CFG_SEL0, 37 PRTPWR4, 38 OCS4_N, 39 PRTPWR3, 40 OCS3_N, 41 VSS, 42 VDD18, 43 PRTPWR2, 44 OCS2_N, 45 PRTPWR1, 46 OCS1_N, 47 CLKIN_EN, 48 TEST1, 49 RESET_N, 50 CFG_SEL1, 51 SELF_PWR, 52 VBUS_DET, 53 VSS, 54 VDD18, 55 VSS, 56 NC, 57 XTAL2, 58 XTAL1/CLKIN, 59 CFG_SEL2, 60 VDDA18PLL, 61 VDDA33PLL, 62 ATEST/REG_EN, 63 RBIAS, 64 VSS

## USB2514BT-I/M2
designator IC?
USB 2.0 Hi-Speed 4-Port Hub Controller 36-Pin SQFN T/R; Manufacturer: Microchip; Purpose Of Usage: BASIC; Supplier 1: Digi-Key; Manufacturer Part Number: USB2514BT-I/M2; Stock 1: 2777; RoHS: Yes; Category: INTEGRATED CIRCUITS; Supplier Part Number 1: USB2514BT-I/M2CT-ND; Sub-Category: USB HUB; Mount: SMD; Case/Package: QFN; Lead Free: Lead Free; Stock ID: ??
footprint QFN50P600X600X100-37N
pins: 1 USBDM_DN1/PRT_DIS_M1 (io), 2 USBDP_DN1/PRT_DIS_P1 (io), 3 USBDM_DN2/PRT_DIS_M2 (io), 4 USBDP_DN2/PRT_DIS_P2 (io), 5 VDDA33 (power), 6 USBDM_DN3/PRT_DIS_M3 (io), 7 USBDP_DN3/PRT_DIS_P3 (io), 8 USBDM_DN4/PRT_DIS_M4 (io), 9 USBDP_DN4/PRT_DIS_P4 (io), 10 VDDA33 (power), 11 TEST (in), 12 PRTPWR1/BC_EN1 (in), 13 OCS_N1 (in), 14 CRFILT, 15 VDD33(REG) (power), 16 PRTPWR2/BC_EN2 (in), 17 OCS_N2 (in), 18 PRTPWR3/BC_EN3 (in), 19 OCS_N3 (in), 20 PRTPWR4/BC_EN4 (in), 21 OCS_N4 (in), 22 SDA/SMBDATA/NON_REM1 (io), 23 VDD33(IO) (power), 24 SCL/CFG_SEL0/SMBCLK (in), 25 HS_IND/CFG_SEL1 (in), 26 RESET_N (in), 27 VBUS_DET (in), 28 SUSP_IND/LOCAL_PWR/NON_REM0 (io), 29 VDDA33 (power), 30 USBDM_UP (io), 31 USBDP_UP (io), 32 XTALOUT (out), 33 XTALIN/CLKIN (in), 34 PLLFILT, 35 RBIAS (io), 36 VDDPLLREF/VDDA33 (power), 37 VSS (power)

## VIPER27HD
designator IC?
AC/DC Converters HI VOLT CONVERTER 800 V RUGGED; Manufacturer: STMicroelectronics; Manufacturer Part Number: VIPER27HD; Purpose Of Usage: BASIC; Supplier 1: Digi-Key; Supplier Part Number 1: 497-14812-5-ND; RoHS: Yes; Stock 1: 823; Mount: SMD; Case/Package: SOIC; Package Quantity: 50; Category: INTEGRATED CIRCUITS; Sub-Category: PMIC - AC/DC Switching Regulator; Lead Free: Lead Free; Stock ID: ??
footprint SO16
pins: 1 GND (power), 2 GND (power), 5 VDD (power), 6 COUNT, 7 FB (in), 8 BR (in), 13 DRAIN (in), 14 DRAIN (in), 15 DRAIN (in), 16 DRAIN (in)

## W25N01GVZEIGTR
designator IC?
IC FLASH 1G SPI 104MHZ 8WSON; Manufacturer: Winbond; Purpose Of Usage: BASIC; Supplier 1: Digi-Key; Supplier Part Number 1: W25N01GVZEIGCT-ND; Manufacturer Part Number: W25N01GVZEIGTR; Stock 1: 11865; RoHS: Yes; Category: INTEGRATED CIRCUITS; Sub-Category: MEMORY - EEPROM; Mount: SMD; Case/Package: QFN; Lead Free: Lead Free; Stock ID: ??
footprint WSON8X6
pins: 1 ~{CS}, 2 SO, 3 ~{WP}, 4 VSS, 5 SI, 6 SCK, 7 ~{HOLD}, 8 VCC

## W25Q128JVSIM TR
designator IC?, comment W25Q128JVSIM
NOR Flash Serial (SPI, Dual SPI, Quad SPI) 3V/3.3V 128M-bit 16M x 8 6ns 8-Pin SOIC T/R/Tray/Tube; Manufacturer: Winbond; Manufacturer Part Number: W25Q128JVSIM TR; Purpose Of Usage: BASIC; Supplier 1: Digi-Key; RoHS: No; Category: INTEGRATED CIRCUITS; Stock 1: 308413; Mount: SMD; Case/Package: SOIC; Supplier Part Number 1: W25Q128JVSIMTR-ND; Sub-Category: MEMORY - FLASH; Lead Free: Lead Free; Stock ID: ??
footprint SOIC127P600X175-8N (SOIC, 8-Leads, Body 4.90x3.90mm, Pitch 1.27mm, IPC Medium Density)
pins: 1 ~{CS}, 2 SIO1, 3 SIO2, 4 GND, 5 SIO0, 6 SCK, 7 SIO3, 8 VCC (power)

## W25Q128JVSIQ
designator IC?
IC FLASH 128M SPI 133MHZ 8SOIC; Manufacturer: Winbond; Purpose Of Usage: BASIC; Supplier 1: Digi-Key; Supplier Part Number 1: W25Q128JVSIQ-ND; Manufacturer Part Number: W25Q128JVSIQ; Stock 1: 10706; RoHS: Yes; Case/Package: SOIC; Category: INTEGRATED CIRCUITS; Sub-Category: MEMORY - FLASH; Mount: SMD; Lead Free: Lead Free; Stock ID: ??
footprint SOIC127P600X175-8N (SOIC, 8-Leads, Body 4.90x3.90mm, Pitch 1.27mm, IPC Medium Density)
pins: 1 ~{CS}, 2 SO, 3 ~{WP}, 4 VSS, 5 SI, 6 SCK, 7 ~{HOLD}, 8 VCC